# Altium footprint library Self_Sensing_Library.PcbLib: 24 footprints (part 1 of 2)
Each footprint in its own frame and in the unit in brackets; x right, y up, seen from the top. Pads: shape width x height; smd on the part's side, far side on the other; paste and mask are expansions set on the pad; w line width, h text height; cw(c..) or ccw(c..) is an arc to the next point about the centre after c.
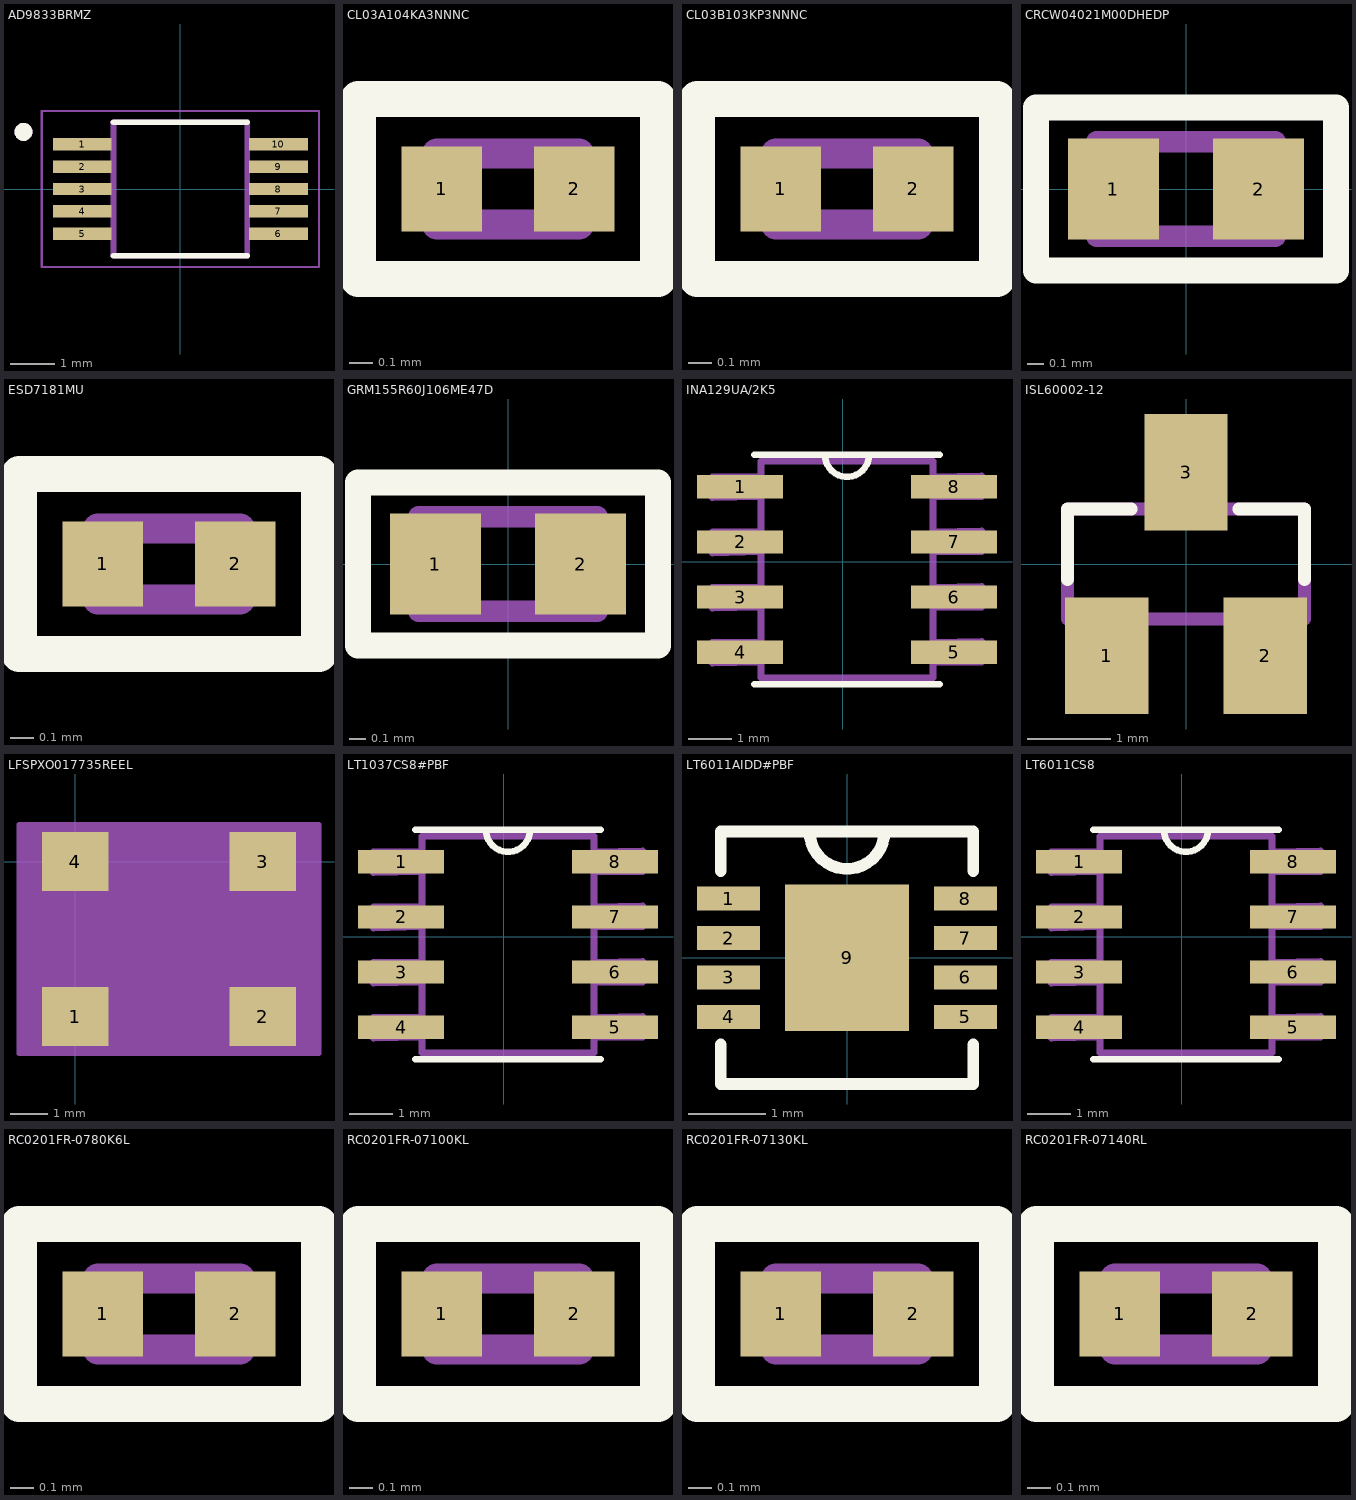
[diagram p0: the footprints below, top view; thin cyan lines are the x and y axes]

## AD9833BRMZ [mm]
pads (10):
  rect 1.32x0.28 smd: 1(-2.2,1) 2(-2.2,0.5) 3(-2.2,0) 4(-2.2,-0.5) 5(-2.2,-1) 6(2.2,-1) 7(2.2,-0.5) 8(2.2,0) 9(2.2,0.5) 10(2.2,1)
Top Overlay:
  circle w0.2: c-3.52,1.28 r0.1
  lines w0.127: -1.5,-1.5 1.5,-1.5 ; -1.5,1.5 1.5,1.5
Mechanical 4:
  circle w0.2: c-3.52,1.28 r0.1
  circle w0.2: c-3.52,1.28 r0.1
  lines w0.127: -1.5,-1.5 1.5,-1.5 ; -1.5,-1.5 -1.5,1.5 ; -1.5,-1.5 1.5,-1.5 ; -1.5,-1.5 -1.5,1.5 ; -1.5,1.5 1.5,1.5 ; -1.5,1.5 1.5,1.5 ; 1.5,-1.5 1.5,1.5 ; 1.5,-1.5 1.5,1.5
Mechanical 16:
  lines w0.05: -3.11,-1.75 3.11,-1.75 3.11,1.75 -3.11,1.75 -3.11,-1.75
3D body "AD9833BRMZ.STEP": height 1.15, standoff 0, extent -2.45,-1.5 2.45,1.5

## CL03A104KA3NNNC [mm]
pads (2):
  rect 0.34x0.36 smd: 1(7.975,14.351) 2(8.535,14.351)
Top Overlay:
  lines w0.152: 7.62,13.97 8.89,13.97 8.89,14.732 7.62,14.732 7.62,13.97
Mechanical 1:
  region: 7.954,14.451 8.055,14.451 8.055,14.251 7.954,14.251
  region: 8.456,14.451 8.555,14.451 8.555,14.251 8.456,14.251
  lines w0.127: 7.955,14.201 8.555,14.201 8.555,14.501 7.955,14.501 7.955,14.201
3D body "Capacitor_0201.STEP": height 0.3, standoff 0, extent 7.955,14.201 8.555,14.501

## CL03B103KP3NNNC [mm]
pads (2):
  rect 0.34x0.36 smd: 1(7.975,14.351) 2(8.535,14.351)
Top Overlay:
  lines w0.152: 7.62,13.97 8.89,13.97 8.89,14.732 7.62,14.732 7.62,13.97
Mechanical 1:
  region: 7.954,14.451 8.055,14.451 8.055,14.251 7.954,14.251
  region: 8.456,14.451 8.555,14.451 8.555,14.251 8.456,14.251
  lines w0.127: 7.955,14.201 8.555,14.201 8.555,14.501 7.955,14.501 7.955,14.201
3D body "Capacitor_0201.STEP": height 0.3, standoff 0, extent 7.955,14.201 8.555,14.501

## CRCW04021M00DHEDP [mm]
pads (2):
  rect 0.54x0.6 smd: 1(-0.43,0) 2(0.43,0)
Top Overlay:
  lines w0.152: -0.889,-0.483 0.889,-0.483 0.889,0.483 -0.889,0.483 -0.889,-0.483
Mechanical 1:
  lines w0.127: -0.53,-0.28 0.53,-0.28 0.53,0.28 -0.53,0.28 -0.53,-0.28
3D body "Capacitor_0402.stp": height 0.55, standoff 0, extent -0.525,-0.279 0.525,0.271

## ESD7181MU [mm]
pads (2):
  rect 0.34x0.36 smd: 1(7.975,14.351) 2(8.535,14.351)
Top Overlay:
  lines w0.152: 7.62,13.97 7.62,14.732 8.89,14.732 8.89,13.97 7.62,13.97
Mechanical 1:
  region: 8.456,14.451 8.555,14.451 8.555,14.251 8.456,14.251
  region: 7.954,14.451 8.055,14.451 8.055,14.251 7.954,14.251
  lines w0.127: 7.955,14.201 7.955,14.501 8.555,14.501 8.555,14.201 7.955,14.201
3D body "Resistor_0201.STEP": height 0.34, standoff 0, extent 7.915,14.186 8.595,14.516

## GRM155R60J106ME47D [mm]
pads (2):
  rect 0.54x0.6 smd: 1(-0.43,0) 2(0.43,0)
Top Overlay:
  lines w0.152: -0.889,-0.483 -0.889,0.483 0.889,0.483 0.889,-0.483 -0.889,-0.483
Mechanical 1:
  lines w0.127: -0.53,-0.28 -0.53,0.28 0.53,0.28 0.53,-0.28 -0.53,-0.28
3D body "Capacitor_0402.stp": height 0.55, standoff 0, extent -0.525,-0.279 0.525,0.271

## INA129UA/2K5 [mil]
pads (8):
  rect 78x21 smd: 1(-93,68) 2(-93,18) 3(-93,-32) 4(-93,-82) 5(101,-82) 6(101,-32) 7(101,18) 8(101,68)
Top Overlay:
  lines w6: -80,-111 88,-111 ; -80,97 88,97 ; -16,97 ccw(c4,97) 24,97
Mechanical 1:
  lines w6: -118,-92 -118,-73 -74,-73 -74,-91 -118,-92 ; -118,-42 -118,-23 -74,-23 -74,-41 -118,-42 ; -118,8 -118,27 -74,27 -74,9 -118,8 ; -118,58 -118,77 -74,77 -74,59 -118,58 ; -74,-105 82,-105 82,91 -8,91 -74,91 -74,-105 ; 82,-91 82,-73 126,-72 126,-91 82,-91 ; 82,-41 82,-23 126,-22 126,-41 82,-41 ; 82,9 82,27 126,28 126,9 82,9 ; 82,59 82,77 126,78 126,59 82,59
3D body "8-SOIC.STEP": height 68.9, standoff 0, extent -118.1,-101.46 118.12,91.46

## ISL60002-12 [mm]
pads (3):
  rect 1x1.4 smd: 1(-0.95,-1.1) 2(0.95,-1.1) 3(0,1.1)
Top Overlay:
  lines w0.152: -1.422,-0.185 -1.422,0.66 -0.658,0.66 ; 0.633,0.66 1.422,0.66 1.422,-0.185
Mechanical 1:
  region: -0.229,1.295 0.229,1.295 0.229,0.713 -0.229,0.713
  region: 0.713,-0.711 1.168,-0.711 1.168,-1.298 0.713,-1.298
  region: -1.17,-0.711 -0.711,-0.711 -0.711,-1.298 -1.17,-1.298
  region: -0.229,1.295 0.229,1.295 0.229,0.713 -0.229,0.713
  region: -0.229,1.295 0.229,1.295 0.229,0.713 -0.229,0.713
  region: -0.23,1.295 0.229,1.295 0.229,0.715 -0.23,0.715
  region: -0.229,1.295 0.229,1.295 0.229,0.712 -0.229,0.712
  region: -0.229,1.295 0.229,1.295 0.229,0.713 -0.229,0.713
  lines w0.152: -1.422,-0.66 1.422,-0.66 1.422,0.66 -1.422,0.66 -1.422,-0.66
3D body "SOT-23-3.STEP": height 1.3, standoff 0, extent -1.424,-1.451 1.476,1.349

## LFSPXO017735REEL [mil]
pads (4):
  rect 70.8x62.9 smd: 1(0,-165.3) 2(200,-165.3) 3(200,0) 4(0,0)
Mechanical 1:
  lines w5: -60,-205 -60,40 260,40 260,-205 -60,-205
Mechanical 4:
  region: -60,40 260,40 260,-205 -60,-205

## LT1037CS8#PBF [mil]
pads (8):
  rect 78x21 smd: 1(-93,68) 2(-93,18) 3(-93,-32) 4(-93,-82) 5(101,-82) 6(101,-32) 7(101,18) 8(101,68)
Top Overlay:
  lines w6: -80,-111 88,-111 ; -80,97 88,97 ; -16,97 ccw(c4,97) 24,97
Mechanical 1:
  lines w6: -118,-92 -74,-91 -74,-73 -118,-73 -118,-92 ; -118,-42 -74,-41 -74,-23 -118,-23 -118,-42 ; -118,8 -74,9 -74,27 -118,27 -118,8 ; -118,58 -74,59 -74,77 -118,77 -118,58 ; -74,-105 -74,91 -8,91 82,91 82,-105 -74,-105 ; 82,-91 126,-91 126,-72 82,-73 82,-91 ; 82,-41 126,-41 126,-22 82,-23 82,-41 ; 82,9 126,9 126,28 82,27 82,9 ; 82,59 126,59 126,78 82,77 82,59
3D body "8-SOIC.STEP": height 68.9, standoff 0, extent -118.1,-101.46 118.12,91.46

## LT6011AIDD#PBF [mil]
pads (9):
  rect 32x12 smd: 1(-60,30) 2(-60,10) 3(-60,-10) 4(-60,-30) 5(60,-30) 6(60,-10) 7(60,10) 8(60,30)
  rect 63x74 smd: 9(0,0)
Top Overlay:
  lines w6: -64,-44 -64,-64 64,-64 64,-44 ; -64,44 -64,64 -12,64 12,64 64,64 64,44 ; -19,64 ccw(c0,64) 19,64
Mechanical 1:
  lines w2: -64,-64 64,-64 ; -64,64 -12,64 12,64 64,64
3D body "8-LFCSP-WD.STEP": height 31.5, standoff 0, extent -59.45,-59.11 59.45,59

## LT6011CS8 [mil]
pads (8):
  rect 78x21 smd: 1(-93,68) 2(-93,18) 3(-93,-32) 4(-93,-82) 5(101,-82) 6(101,-32) 7(101,18) 8(101,68)
Top Overlay:
  lines w6: -80,-111 88,-111 ; -80,97 88,97 ; -16,97 ccw(c4,97) 24,97
Mechanical 1:
  lines w6: -118,-92 -74,-91 -74,-73 -118,-73 -118,-92 ; -118,-42 -74,-41 -74,-23 -118,-23 -118,-42 ; -118,8 -74,9 -74,27 -118,27 -118,8 ; -118,58 -74,59 -74,77 -118,77 -118,58 ; -74,-105 -74,91 -8,91 82,91 82,-105 -74,-105 ; 82,-91 126,-91 126,-72 82,-73 82,-91 ; 82,-41 126,-41 126,-22 82,-23 82,-41 ; 82,9 126,9 126,28 82,27 82,9 ; 82,59 126,59 126,78 82,77 82,59
3D body "8-SOIC.STEP": height 68.9, standoff 0, extent -118.1,-101.46 118.12,91.46

## RC0201FR-0780K6L [mm]
pads (2):
  rect 0.34x0.36 smd: 1(7.975,14.351) 2(8.535,14.351)
Top Overlay:
  lines w0.152: 7.62,13.97 8.89,13.97 8.89,14.732 7.62,14.732 7.62,13.97
Mechanical 1:
  region: 7.954,14.451 8.055,14.451 8.055,14.251 7.954,14.251
  region: 8.456,14.451 8.555,14.451 8.555,14.251 8.456,14.251
  lines w0.127: 7.955,14.201 8.555,14.201 8.555,14.501 7.955,14.501 7.955,14.201
3D body "Resistor_0201.STEP": height 0.34, standoff 0, extent 7.915,14.186 8.595,14.516

## RC0201FR-07100KL [mm]
pads (2):
  rect 0.34x0.36 smd: 1(7.975,14.351) 2(8.535,14.351)
Top Overlay:
  lines w0.152: 7.62,13.97 8.89,13.97 8.89,14.732 7.62,14.732 7.62,13.97
Mechanical 1:
  region: 7.954,14.451 8.055,14.451 8.055,14.251 7.954,14.251
  region: 8.456,14.451 8.555,14.451 8.555,14.251 8.456,14.251
  lines w0.127: 7.955,14.201 8.555,14.201 8.555,14.501 7.955,14.501 7.955,14.201
3D body "Resistor_0201.STEP": height 0.34, standoff 0, extent 7.915,14.186 8.595,14.516

## RC0201FR-07130KL [mm]
pads (2):
  rect 0.34x0.36 smd: 1(7.975,14.351) 2(8.535,14.351)
Top Overlay:
  lines w0.152: 7.62,13.97 8.89,13.97 8.89,14.732 7.62,14.732 7.62,13.97
Mechanical 1:
  region: 7.954,14.451 8.055,14.451 8.055,14.251 7.954,14.251
  region: 8.456,14.451 8.555,14.451 8.555,14.251 8.456,14.251
  lines w0.127: 7.955,14.201 8.555,14.201 8.555,14.501 7.955,14.501 7.955,14.201
3D body "Resistor_0201.STEP": height 0.34, standoff 0, extent 7.915,14.186 8.595,14.516

## RC0201FR-07140RL [mm]
pads (2):
  rect 0.34x0.36 smd: 1(7.975,14.351) 2(8.535,14.351)
Top Overlay:
  lines w0.152: 7.62,13.97 8.89,13.97 8.89,14.732 7.62,14.732 7.62,13.97
Mechanical 1:
  region: 7.954,14.451 8.055,14.451 8.055,14.251 7.954,14.251
  region: 8.456,14.451 8.555,14.451 8.555,14.251 8.456,14.251
  lines w0.127: 7.955,14.201 8.555,14.201 8.555,14.501 7.955,14.501 7.955,14.201
3D body "Resistor_0201.STEP": height 0.34, standoff 0, extent 7.915,14.186 8.595,14.516